# Altium footprint library PCB11.PcbLib: 20 footprints (part 1 of 2)
Each footprint in its own frame and in the unit in brackets; x right, y up, seen from the top. Pads: shape width x height; smd on the part's side, far side on the other; paste and mask are expansions set on the pad; w line width, h text height; cw(c..) or ccw(c..) is an arc to the next point about the centre after c.
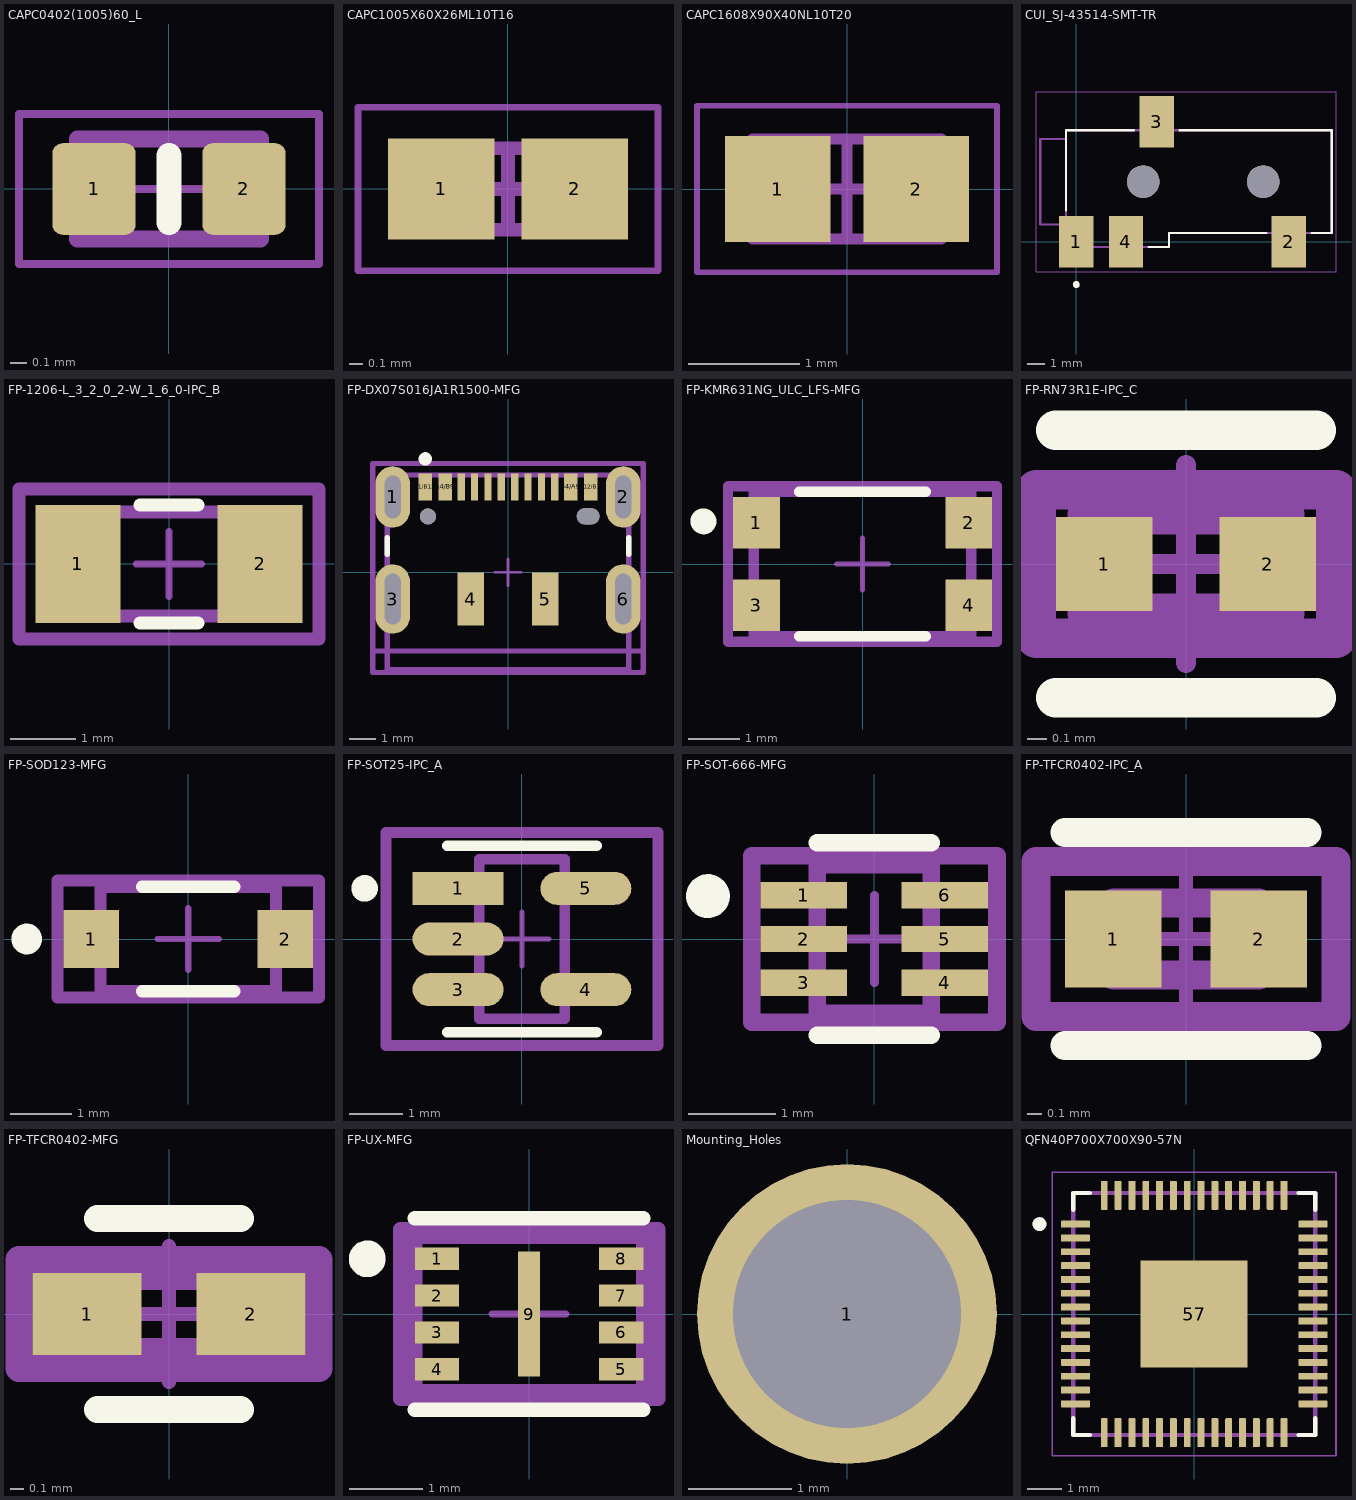
[diagram p0: the footprints below, top view; thin cyan lines are the x and y axes]

## CAPC0402(1005)60_L [mm] "Chip Capacitor, Body 1.0x0.5mm, Height 0.6mm, IPC High Density"
height 0.6
pads (2):
  rrect25% 0.5x0.55 smd: 1(-0.45,0) 2(0.45,0)
Top Overlay:
  lines w0.15: 0,-0.2 0,0.2
Top Assembly:
  lines w0.1: -0.55,-0.3 0.55,-0.3 0.55,0.3 -0.55,0.3 -0.55,-0.3
Top Courtyard:
  lines w0.05: -0.275,0 0.275,0 ; 0,-0.275 0,0.275 ; -0.9,-0.45 -0.9,0.45 0.9,0.45 0.9,-0.45 -0.9,-0.45
Top Designator:
  text ".Designator" at -1.27,-0.127 h0.6
3D body "CAPC1005X60N EIA 0402.STEP": height 0.6, standoff 0, extent -0.5,-0.25 0.5,0.25

## CAPC1005X60X26ML10T16 [mm] "Chip Capacitor, 2-Leads, Body 1.00x0.50mm, IPC Low Density"
height 0.6
pads (2):
  rect 0.78x0.74 smd: 1(-0.49,0) 2(0.49,0)
Mechanical 13:
  lines w0.1: -0.55,-0.3 0.55,-0.3 0.55,0.3 -0.55,0.3 -0.55,-0.3
Mechanical 15:
  lines w0.05: -1.1,-0.6 1.1,-0.6 1.1,0.6 -1.1,0.6 -1.1,-0.6
  lines w0.1: -0.3,0 0.3,0 ; 0,-0.3 0,0.3
3D body: height 0.6, standoff 0, extent 0.29,-0.3 0.55,0.3
3D body: height 0.6, standoff 0, extent -0.55,-0.3 -0.29,0.3
3D body: height 0.6, standoff 0, extent -0.29,-0.3 0.29,0.3

## CAPC1608X90X40NL10T20 [mm] "Chip Capacitor, 2-Leads, Body 1.70x0.90mm, IPC Medium Density"
height 0.9
pads (2):
  rect 0.95x0.95 smd: 1(-0.625,0) 2(0.625,0)
Mechanical 13:
  lines w0.1: -0.85,-0.45 -0.85,0.45 0.85,0.45 0.85,-0.45 -0.85,-0.45
Mechanical 15:
  lines w0.05: -1.35,-0.75 -1.35,0.75 1.35,0.75 1.35,-0.75 -1.35,-0.75
  lines w0.1: -0.45,0 0.45,0 ; 0,-0.45 0,0.45
3D body "CAPC1608X09N.step": height 0.9, standoff 0, extent -0.85,-0.45 0.85,0.45

## CUI_SJ-43514-SMT-TR [mm]
height 5.3
pads (6):
  rect 2x3 smd: 1(0,0) 2(12.4,0) 3(4.7,7) 4(2.9,0)
  round 1.9 hole 1.9 unplated: ""(3.9,3.5) ""(10.9,3.5)
Top Overlay:
  circle w0.2: c0,-2.5 r0.1
  lines w0.127: -0.6,1.82 -0.6,6.5 3.35,6.5 ; 4.22,-0.3 5.4,-0.3 5.4,0.5 11.08,0.5 ; 6.02,6.5 14.9,6.5 14.9,0.5 13.72,0.5
Mechanical 13:
  circle w0.2: c0,-2.5 r0.1
  lines w0.127: -0.6,1 -0.6,6 ; -0.6,1 -0.6,-0.3 5.4,-0.3 5.4,0.5 14.9,0.5 14.9,6.5 -0.6,6.5 -0.6,6 ; -0.6,1 -2.1,1 -2.1,6 -0.6,6
Mechanical 15:
  lines w0.05: -2.35,-1.75 -2.35,8.75 15.15,8.75 15.15,-1.75 -2.35,-1.75
3D body "SJ-43514-SMT-TR--3DModel-STEP-1.STEP": height 5.04, standoff -0.96, extent -2.088,-1.016 15.042,7.984

## FP-1206-L_3_2_0_2-W_1_6_0-IPC_B [mm]
pads (2):
  rect 1.305x1.806 smd paste+0 mask+0: 1(-1.401,0) 2(1.401,0)
Top Overlay:
  lines w0.2: -0.448,-0.903 0.448,-0.903 ; -0.448,0.903 0.448,0.903
Top Assembly:
  lines w0.2: -2.303,-1.153 -2.303,1.153 2.303,1.153 2.303,-1.153 -2.303,-1.153
  text ".Designator" at 0,0.188 h1
Top Courtyard:
  lines w0.2: -2.303,-1.153 -2.303,1.153 2.303,1.153 2.303,-1.153 -2.303,-1.153
Top Component Center:
  lines w0.1: -0.5,0 0.5,0 ; 0,-0.5 0,0.5
Top 3D Body:
  lines w0.2: -1.6,-0.8 -1.6,0.8 1.6,0.8 1.6,-0.8 -1.6,-0.8
3D body "Cap_AVX_12062A102GAT2A_eec.STEP": height 0.25, standoff 0, extent -2.303,-1.153 2.303,1.153

## FP-DX07S016JA1R1500-MFG [mm]
pads (20):
  rrect100% 1.3x2.3 hole 1.6 slot 0.6 at 0 deg paste-2539.97 mask+0: 1(-4.32,2.825) 2(4.32,2.825)
  rrect100% 1.3x2.6 hole 1.9 slot 0.6 at 0 deg paste-2539.97 mask+0: 3(-4.32,-1) 6(4.32,-1)
  rect 1x2 smd paste+0 mask+0: 4(-1.4,-1) 5(1.4,-1)
  rect 0.52x1 smd paste+0 mask+0: A1/B12(-3.1,3.2) A4/B9(-2.35,3.2) A12/B1(3.1,3.2) B4/A9(2.35,3.2)
  rect 0.27x1 smd paste+0 mask+0: A5(-1.75,3.2) A6(-0.25,3.2) A7(0.75,3.2) A8(1.75,3.2) B5(1.25,3.2) B6(0.25,3.2) B7(-0.75,3.2) B8(-1.25,3.2)
  round 0.6 hole 0.6 unplated paste-2539.97 mask+0: ""(-3,2.1)
  rrect100% 0.85x0.6 hole 0.6 slot 0.85 at 0 deg unplated paste-2539.97 mask+0: ""(3,2.1)
Top Overlay:
  circle w0.25: c-3.1,4.25 r0.125
  lines w0.2: -4.52,0.675 -4.52,1.3 ; 4.52,0.675 4.52,1.3
Top Assembly:
  lines w0.2: -5.07,-3.75 5.07,-3.75 5.07,4.075 -5.07,4.075 -5.07,-3.75
  text ".Designator" at 0,0.162 h1
Top Courtyard:
  lines w0.2: -5.07,-3.75 5.07,-3.75 5.07,4.075 -5.07,4.075 -5.07,-3.75
Top Component Center:
  lines w0.1: -0.5,0 0.5,0 ; 0,-0.5 0,0.5
Top 3D Body:
  lines w0.2: -5.07,-2.95 5.07,-2.95 ; -4.52,-3.65 4.52,-3.65 4.52,3.65 -4.52,3.65 -4.52,-3.65
3D body "Conn_JAE_Electronics_DX07S016JA1R1500_eec.STEP": height 0.25, standoff 0, extent -5.07,-3.75 5.07,4.075

## FP-KMR631NG_ULC_LFS-MFG [mm]
pads (4):
  rect 0.9x1 smd paste+0 mask+0: 1(-2.05,0.8) 2(2.05,0.8) 3(-2.05,-0.8) 4(2.05,-0.8)
Top Overlay:
  circle w0.25: c-3.075,0.825 r0.125
  lines w0.2: -1.225,-1.4 1.225,-1.4 ; -1.225,1.4 1.225,1.4
Top Assembly:
  lines w0.2: -2.6,-1.5 2.6,-1.5 2.6,1.5 -2.6,1.5 -2.6,-1.5
  text ".Designator" at 0,0.188 h1
Top Courtyard:
  lines w0.2: -2.6,-1.5 2.6,-1.5 2.6,1.5 -2.6,1.5 -2.6,-1.5
Top Component Center:
  lines w0.1: -0.5,0 0.5,0 ; 0,-0.5 0,0.5
Top 3D Body:
  lines w0.2: -2.1,-1.4 2.1,-1.4 2.1,1.4 -2.1,1.4 -2.1,-1.4
3D body "Switch_C&K_Components_KMR631NG_ULC_LFS_eec.STEP": height 0.25, standoff 0, extent -2.6,-1.5 2.6,1.5

## FP-RN73R1E-IPC_C [mm]
pads (2):
  rect 0.488x0.472 smd paste+0 mask+0: 1(-0.414,0) 2(0.414,0)
Top Overlay:
  lines w0.2: -0.658,-0.675 0.658,-0.675 ; -0.658,0.675 0.658,0.675
Top Assembly:
  lines w0.2: -0.758,-0.375 -0.758,0.375 0.758,0.375 0.758,-0.375 -0.758,-0.375
  text ".Designator" at 0,0.188 h1
Top Courtyard:
  lines w0.2: -0.758,-0.375 -0.758,0.375 0.758,0.375 0.758,-0.375 -0.758,-0.375
Top Component Center:
  lines w0.1: -0.5,0 0.5,0 ; 0,-0.5 0,0.5
Top 3D Body:
  lines w0.2: -0.5,-0.25 -0.5,0.25 0.5,0.25 0.5,-0.25 -0.5,-0.25
3D body "Res_KOA_Speer_RN73R1ETTP2520D25_eec.STEP": height 0.25, standoff 0, extent -0.758,-0.375 0.758,0.375

## FP-SOD123-MFG [mm]
pads (2):
  rect 0.9x0.95 smd paste+0 mask+0: 1(-1.575,0) 2(1.575,0)
Top Overlay:
  circle w0.25: c-2.625,0 r0.125
  lines w0.2: -0.75,-0.85 0.75,-0.85 ; -0.75,0.85 0.75,0.85
Top Assembly:
  lines w0.2: -2.125,-0.95 -2.125,0.95 2.125,0.95 2.125,-0.95 -2.125,-0.95
  text ".Designator" at 0,-0.001 h1
Top Courtyard:
  lines w0.2: -2.125,-0.95 -2.125,0.95 2.125,0.95 2.125,-0.95 -2.125,-0.95
Top Component Center:
  lines w0.1: -0.5,0 0.5,0 ; 0,-0.5 0,0.5
Top 3D Body:
  lines w0.2: -1.425,-0.85 -1.425,0.85 1.425,0.85 1.425,-0.85 -1.425,-0.85
3D body "Diode_Diodes_Inc_1N4148W-13-F_eec.STEP": height 1.45, standoff 0, extent -1.85,-0.775 1.85,0.775

## FP-SOT25-IPC_A [mm]
pads (5):
  rect 1.707x0.616 smd paste+0 mask+0: 1(-1.201,0.95)
  rrect100% 1.707x0.616 smd paste+0 mask+0: 2(-1.201,0) 3(-1.201,-0.95) 4(1.201,-0.95) 5(1.201,0.95)
Top Overlay:
  circle w0.25: c-2.954,0.95 r0.125
  lines w0.2: -1.4,-1.75 1.4,-1.75 ; -1.4,1.75 1.4,1.75
Top Assembly:
  lines w0.2: -2.554,-2 -2.554,2 2.554,2 2.554,-2 -2.554,-2
  text ".Designator" at 0,-0.001 h1
Top Courtyard:
  lines w0.2: -2.554,-2 -2.554,2 2.554,2 2.554,-2 -2.554,-2
Top Component Center:
  lines w0.1: -0.5,0 0.5,0 ; 0,-0.5 0,0.5
Top 3D Body:
  lines w0.2: -0.8,-1.5 -0.8,1.5 0.8,1.5 0.8,-1.5 -0.8,-1.5
3D body "IC_Diodes_Inc_AP2127K-3_3TRG1_eec.STEP": height 0.25, standoff 0, extent -2.554,-2 2.554,2

## FP-SOT-666-MFG [mm]
pads (6):
  rect 0.99x0.3 smd paste+0 mask+0: 1(-0.805,0.5) 2(-0.805,0) 3(-0.805,-0.5) 4(0.805,-0.5) 5(0.805,0) 6(0.805,0.5)
Top Overlay:
  circle w0.25: c-1.9,0.49 r0.125
  lines w0.2: -0.65,-1.1 0.65,-1.1 ; -0.65,1.1 0.65,1.1
Top Assembly:
  lines w0.2: -1.4,-0.95 -1.4,0.95 1.4,0.95 1.4,-0.95 -1.4,-0.95
  text ".Designator" at 0,0.188 h1
Top Courtyard:
  lines w0.2: -1.4,-0.95 -1.4,0.95 1.4,0.95 1.4,-0.95 -1.4,-0.95
Top Component Center:
  lines w0.1: -0.5,0 0.5,0 ; 0,-0.5 0,0.5
Top 3D Body:
  lines w0.2: -0.65,-0.85 -0.65,0.85 0.65,0.85 0.65,-0.85 -0.65,-0.85
3D body "Diode_STMicroelectronics_DSILC6-4P6_eec.STEP": height 0.25, standoff 0, extent -1.4,-0.95 1.4,0.95

## FP-TFCR0402-IPC_A [mm]
pads (2):
  rect 0.665x0.672 smd paste+0 mask+0: 1(-0.504,0) 2(0.504,0)
Top Overlay:
  lines w0.2: -0.836,-0.736 0.836,-0.736 ; -0.836,0.736 0.836,0.736
Top Assembly:
  lines w0.2: -1.036,-0.536 1.036,-0.536 1.036,0.536 -1.036,0.536 -1.036,-0.536
  text ".Designator" at 0,0.188 h1
Top Courtyard:
  lines w0.2: -1.036,-0.536 1.036,-0.536 1.036,0.536 -1.036,0.536 -1.036,-0.536
Top Component Center:
  lines w0.1: -0.5,0 0.5,0 ; 0,-0.5 0,0.5
Top 3D Body:
  lines w0.2: -0.5,-0.25 0.5,-0.25 0.5,0.25 -0.5,0.25 -0.5,-0.25
3D body "Res_Venkel_TFCR0402-16W-K-1930CT-1K_eec.STEP": height 0.25, standoff 0, extent -1.036,-0.536 1.036,0.536

## FP-TFCR0402-MFG [mm]
pads (2):
  rect 0.8x0.6 smd paste+0 mask+0: 1(-0.6,0) 2(0.6,0)
Top Overlay:
  lines w0.2: -0.525,-0.7 0.525,-0.7 ; -0.525,0.7 0.525,0.7
Top Assembly:
  lines w0.2: -1.1,-0.4 1.1,-0.4 1.1,0.4 -1.1,0.4 -1.1,-0.4
  text ".Designator" at 0,0.188 h1
Top Courtyard:
  lines w0.2: -1.1,-0.4 1.1,-0.4 1.1,0.4 -1.1,0.4 -1.1,-0.4
Top Component Center:
  lines w0.1: -0.5,0 0.5,0 ; 0,-0.5 0,0.5
Top 3D Body:
  lines w0.2: -0.525,-0.275 0.525,-0.275 0.525,0.275 -0.525,0.275 -0.525,-0.275
3D body "Res_Venkel_TFCR0402-16W-K-1930CT-1K_eec.STEP": height 0.25, standoff 0, extent -1.1,-0.4 1.1,0.4

## FP-UX-MFG [mm]
pads (9):
  rect 0.6x0.3 smd paste-1000 mask-1000: 1(-1.25,0.75) 2(-1.25,0.25) 3(-1.25,-0.25) 4(-1.25,-0.75) 5(1.25,-0.75) 6(1.25,-0.25) 7(1.25,0.25) 8(1.25,0.75)
  rect 0.3x1.7 smd paste-1000 mask+0: 9(0,0)
Top Overlay:
  circle w0.25: c-2.2,0.75 r0.125
  lines w0.2: -1.55,-1.3 1.55,-1.3 ; -1.55,1.3 1.55,1.3
Top Paste:
  rectangle: -0.1,0.1 0.1,0.6
  rectangle: -0.1,-0.6 0.1,-0.1
  rectangle: 1.1,0.65 1.65,0.85
  rectangle: 1.1,0.15 1.65,0.35
  rectangle: 1.1,-0.35 1.65,-0.15
  rectangle: 1.1,-0.85 1.65,-0.65
  rectangle: -1.65,-0.85 -1.1,-0.65
  rectangle: -1.65,-0.35 -1.1,-0.15
  rectangle: -1.65,0.15 -1.1,0.35
  rectangle: -1.65,0.65 -1.1,0.85
Top Solder:
  rectangle: 0.95,0.6 1.65,0.9
  rectangle: 0.95,0.1 1.65,0.4
  rectangle: 0.95,-0.4 1.65,-0.1
  rectangle: 0.95,-0.9 1.65,-0.6
  rectangle: -1.65,-0.9 -0.95,-0.6
  rectangle: -1.65,-0.4 -0.95,-0.1
  rectangle: -1.65,0.1 -0.95,0.4
  rectangle: -1.65,0.6 -0.95,0.9
Top Assembly:
  lines w0.2: -1.75,-1.15 -1.75,1.15 1.75,1.15 1.75,-1.15 -1.75,-1.15
  text ".Designator" at 0,0.188 h1
Top Courtyard:
  lines w0.2: -1.75,-1.15 -1.75,1.15 1.75,1.15 1.75,-1.15 -1.75,-1.15
Top Component Center:
  lines w0.1: -0.5,0 0.5,0 ; 0,-0.5 0,0.5
Top 3D Body:
  lines w0.2: -1.55,-1.05 -1.55,1.05 1.55,1.05 1.55,-1.05 -1.55,-1.05
3D body "IC_Winbond_W25Q80DVUXIE_TR_eec.STEP": height 0.25, standoff 0, extent -1.75,-1.15 1.75,1.15

## Mounting_Holes [mm]
pads (1):
  round 2.9 hole 2.2: 1(0,0)

## QFN40P700X700X90-57N [mm]
height 0.9
pads (57):
  rrect25% 0.84x0.2 smd mask+0.05: 2(-3.435,2.2) 3(-3.435,1.8) 4(-3.435,1.4) 5(-3.435,1) 6(-3.435,0.6) 7(-3.435,0.2) 8(-3.435,-0.2) 9(-3.435,-0.6) 11(-3.435,-1.4) 12(-3.435,-1.8) 13(-3.435,-2.2) 14(-3.435,-2.6) 29(3.435,-2.6) 30(3.435,-2.2) 31(3.435,-1.8) 32(3.435,-1.4) 34(3.435,-0.6) 35(3.435,-0.2) 36(3.435,0.2) 37(3.435,0.6) 38(3.435,1) 39(3.435,1.4) 40(3.435,1.8) 41(3.435,2.2) IOVDD(-3.435,-1) IOVDD(-3.435,2.6) IOVDD(3.435,-1) IOVDD(3.435,2.6)
  rrect25% 0.2x0.84 smd mask+0.05: 15(-2.6,-3.435) 16(-2.2,-3.435) 17(-1.8,-3.435) 18(-1.4,-3.435) 19(-1,-3.435) 20(-0.6,-3.435) 21(-0.2,-3.435) 24(1,-3.435) 25(1.4,-3.435) 26(1.8,-3.435) 27(2.2,-3.435) 28(2.6,-3.435) 43(2.6,3.435) 44(2.2,3.435) 45(1.8,3.435) 46(1.4,3.435) 47(1,3.435) 48(0.6,3.435) 51(-0.6,3.435) 52(-1,3.435) 53(-1.4,3.435) 54(-1.8,3.435) 55(-2.2,3.435) 56(-2.6,3.435) DVDD(-0.2,3.435) DVDD(0.6,-3.435) IOVDD(0.2,-3.435) IOVDD(0.2,3.435)
  rect 3.1x3.1 smd paste-0.57 mask+0.05: 57(0,0)
Top Overlay:
  circle w0.2: c-4.475,2.6 r0.1
  lines w0.127: -3.5,-3.02 -3.5,-3.5 -3.02,-3.5 ; -3.5,3.02 -3.5,3.5 -3.02,3.5 ; 3.02,-3.5 3.5,-3.5 3.5,-3.02 ; 3.02,3.5 3.5,3.5 3.5,3.02
Mechanical 13:
  circle w0.2: c-4.475,2.6 r0.1
  lines w0.127: -3.5,-3.5 3.5,-3.5 3.5,3.5 -3.5,3.5 -3.5,-3.5
Mechanical 15:
  lines w0.05: -4.105,-4.105 4.105,-4.105 4.105,4.105 -4.105,4.105 -4.105,-4.105
3D body "step_temp.STEP": height 0.9, standoff 0, extent -3.5,-3.5 3.5,3.5